# Altium integrated library L78CD.IntLib: 1 symbol
Pins are listed as number, name and electrical type; pins without a type are passive.

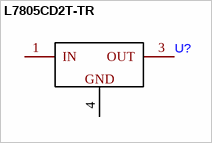
[diagram p0: symbol L7805CD2T-TR]

## L7805CD2T-TR
designator U?
footprint TO-263-2
footprint TO-252
footprint TO-252
pins: 1 IN, 3 OUT, 4 GND